# EAGLE library part IC_DIL24 (library dp_devices)
Universal 24 pins IC
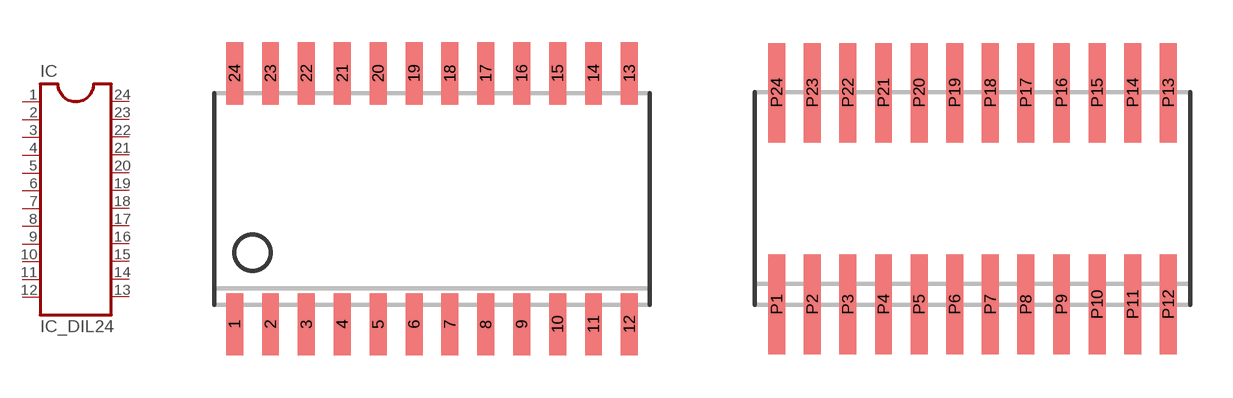
[diagram p131: symbol with the pads of SOIC-24; footprints SOIC-24, SOIC-24NW]

Designator prefix IC

## IC_DIL24-SOIC-24W  [SOIC-24]
1  1
2  2
3  3
4  4
5  5
6  6
7  7
8  8
9  9
10  10
11  11
12  12
13  13
14  14
15  15
16  16
17  17
18  18
19  19
20  20
21  21
22  22
23  23
24  24

## IC_DIL24-SOIC-24NW  [SOIC-24NW]
P1  1
P2  2
P3  3
P4  4
P5  5
P6  6
P7  7
P8  8
P9  9
P10  10
P11  11
P12  12
P13  13
P14  14
P15  15
P16  16
P17  17
P18  18
P19  19
P20  20
P21  21
P22  22
P23  23
P24  24

## Footprint SOIC-24 (pad centres in mm)
smd 0.6 x 2.2: 1 -6.985,-4.445; 2 -5.715,-4.445; 3 -4.445,-4.445; 4 -3.175,-4.445; 5 -1.905,-4.445; 6 -0.635,-4.445; 7 0.635,-4.445; 8 1.905,-4.445; 9 3.175,-4.445; 10 4.445,-4.445; 11 5.715,-4.445; 12 6.985,-4.445; 13 6.985,4.445; 14 5.715,4.445; 15 4.445,4.445; 16 3.175,4.445; 17 1.905,4.445; 18 0.635,4.445; 19 -0.635,4.445; 20 -1.905,4.445; 21 -3.175,4.445; 22 -4.445,4.445; 23 -5.715,4.445; 24 -6.985,4.445

## Footprint SOIC-24NW (pad centres in mm)
SSOP-24 Narrow - Wide Pad size: 0.6 x 3.56 mm Pad pitch: 1.27mm Pad pitch lateral: 7.56mm
smd 0.6 x 3.56: P1 -6.985,-3.78; P2 -5.715,-3.78; P3 -4.445,-3.78; P4 -3.175,-3.78; P5 -1.905,-3.78; P6 -0.635,-3.78; P7 0.635,-3.78; P8 1.905,-3.78; P9 3.175,-3.78; P10 4.445,-3.78; P11 5.715,-3.78; P12 6.985,-3.78; P13 6.985,3.78; P14 5.715,3.78; P15 4.445,3.78; P16 3.175,3.78; P17 1.905,3.78; P18 0.635,3.78; P19 -0.635,3.78; P20 -1.905,3.78; P21 -3.175,3.78; P22 -4.445,3.78; P23 -5.715,3.78; P24 -6.985,3.78